# EAGLE library part PIN2X3 (library Connector)
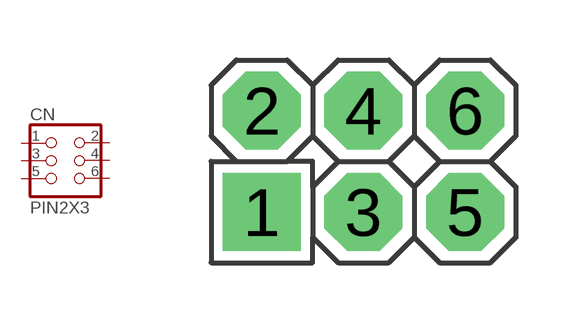
[diagram p11: symbol with the pads of PIN2X3; footprint PIN2X3]

Designator prefix CN

## PIN2X3  [PIN2X3]
1  1  pas
2  2  pas
3  3  pas
4  4  pas
5  5  pas
6  6  pas

## Footprint PIN2X3 (pad centres in mm)
drill 1.3 square: 1 -2.54,-1.27
drill 1.3 octagon: 2 -2.54,1.27; 3 0,-1.27; 4 0,1.27; 5 2.54,-1.27; 6 2.54,1.27